# EAGLE library part PROMINI (library Fortech)
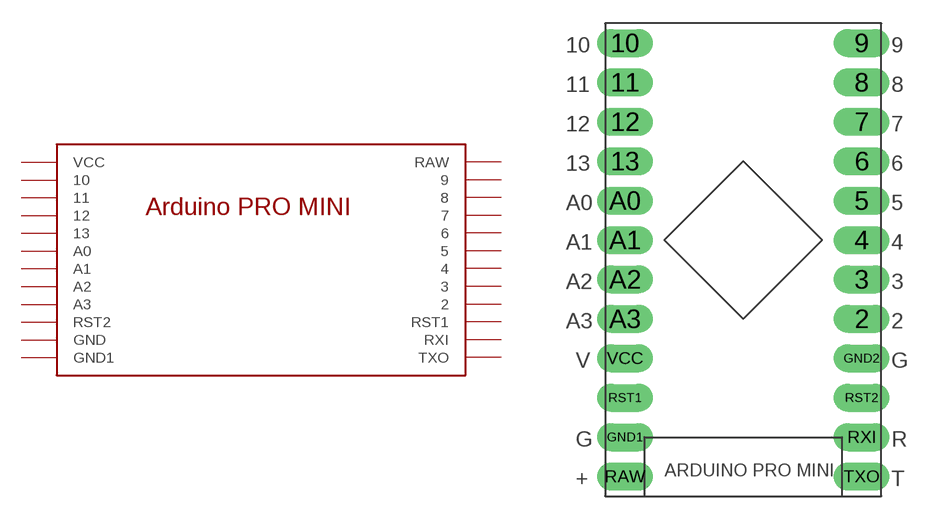
[diagram p5: symbol with the pads of PROMINI; footprint PROMINI]

Designator prefix -

## PROMINI  [PROMINI]
2  2
3  3
4  4
5  5
6  6
7  7
8  8
9  9
10  10
11  11
12  12
13  13
A0  A0
A1  A1
A2  A2
A3  A3
GND1  GND
GND2  GND1  pwr
RAW  RAW
RST1  RST1
RST2  RST2
RXI  RXI
TXO  TXO
VCC  VCC

## Footprint PROMINI (pad centres in mm)
drill 1.2 long: 2 7.62,-5.08; 3 7.62,-2.54; 4 7.62,0; 5 7.62,2.54; 6 7.62,5.08; 7 7.62,7.62; 8 7.62,10.16; 9 7.62,12.7; 10 -7.62,12.7; 11 -7.62,10.16; 12 -7.62,7.62; 13 -7.62,5.08; A0 -7.62,2.54; A1 -7.62,0; A2 -7.62,-2.54; A3 -7.62,-5.08; GND1 -7.62,-12.7; GND2 7.62,-7.62; RAW -7.62,-15.24; RST1 -7.62,-10.16; RST2 7.62,-10.16; RXI 7.62,-12.7; TXO 7.62,-15.24; VCC -7.62,-7.62